# Altium integrated library Transistor.IntLib: 52 symbols
Pins are listed as number, name and electrical type; pins without a type are passive.

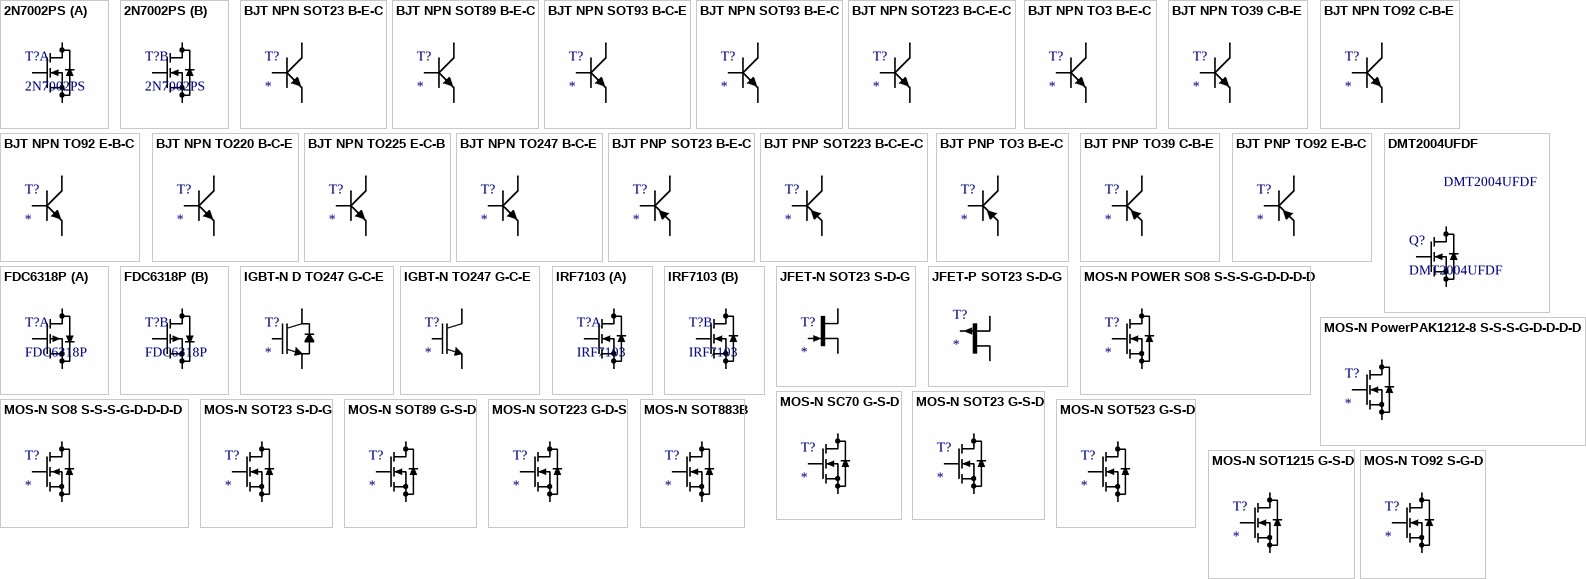
[diagram p0: symbols 2N7002PS to MOS-N TO92 S-G-D]

## 2N7002PS
designator T?
N-channel Trench MOSFET 60 V, 320 mA; Value: 2N7002PS
footprint SOT363 P0.65 C1.3x2.2 H1.0 (SOT363, 6-Leads, Body 1.3x2.2mm, Pitch 0.65mm, IPC Medium Density)
part A pins: 1 S1, 2 G1, 6 D1
part B pins: 3 D2, 4 S2, 5 G2

## BJT NPN SOT23 B-E-C
designator T?
Generic NPN Transistor; Value: *
footprint SOT23 P0.95 C1.6x3.0 H1.3 (SOT23, 3-Leads, Body 1.6x3.0mm, Pitch 0.95mm, IPC Medium Density)
pins: 1 B, 2 E, 3 C

## BJT NPN SOT89 B-E-C
designator T?
Generic NPN Transistor; Value: *
footprint SOT89 P1.5 C2.4x4.6 H1.6 (SOT89, 3-Leads, Body 4.6x2.4 mm, Pitch 1.5mm, Lead Span 4.1mm, IPC Medium Density)
pins: 1 B, 2 E, 3 C

## BJT NPN SOT93 B-C-E
designator T?
Generic NPN Transistor; Value: *
footprint SOT93 VERTICAL (SOT93 VERTICAL, Pitch 5.5, Case 15.0x4.8)
pins: 1 B, 2 E, 3 C

## BJT NPN SOT93 B-E-C
designator T?
Generic NPN Transistor; Value: *
footprint SOT93 VERTICAL (SOT93 VERTICAL, Pitch 5.5, Case 15.0x4.8)
pins: 1 B, 2 E, 3 C

## BJT NPN SOT223 B-C-E-C
designator T?
Generic NPN Transistor; Value: *
footprint SOT223 P2.3 C3.5x6.5 H1.6 (SOT223, 4-Leads, Body 3.50x6.50mm (avg), Pitch 2.30mm, IPC Medium Density); pin to pad 2>3 3>2
pins: 1 B, 2 E, 3 C, 4 C

## BJT NPN TO3 B-E-C
designator T?
Generic NPN Transistor; Value: *
footprint TO3 (TO39, Diameter  8.5mm, Height 12mm)
pins: 1 B, 2 E, 3 C

## BJT NPN TO39 C-B-E
designator T?
Generic NPN Transistor; Value: *
footprint TO39 (TO39, Diameter  8.5mm, Height 12mm)
pins: 1 C, 2 B, 3 E

## BJT NPN TO92 C-B-E
designator T?
Generic NPN Transistor; Value: *
footprint TO92 (TO92, diameter  5mm, Height 9mm); pin to pad 1>2 2>3 3>1
pins: 1 B, 2 E, 3 C

## BJT NPN TO92 E-B-C
designator T?
Generic NPN Transistor; Value: *
footprint TO92 (TO92, Diameter  5mm, Height 9mm)
pins: 1 E, 2 B, 3 C

## BJT NPN TO220 B-C-E
designator T?
Generic NPN Transistor; Value: *
footprint TO220AB VERTICAL (TO220AB VERTICAL, Pitch 2.5, Case 10.4x4.7); pin to pad 2>3 3>2
pins: 1 B, 2 E, 3 C

## BJT NPN TO225 E-C-B
designator T?
Generic NPN Transistor; Value: *
footprint TO225 HORIZONTAL (TO225 HORIZONTAL, Pitch 2.2, Case 11.0x8.0)
footprint TO225 VERTICAL (TO225 VERTICAL, Pitch 2.2, Case 8.0x2.5)
pins: 1 E, 2 C, 3 B

## BJT NPN TO247 B-C-E
designator T?
Generic NPN Transistor; Value: *
footprint TO247 VERTICAL (TO247, Pitch 5.45 mm, Case  16 x 5.3mm, Height 25mm); pin to pad 2>3 3>2
pins: 1 B, 2 E, 3 C

## BJT PNP SOT23 B-E-C
designator T?
Generic PNP Transistor; Value: *
footprint SOT23 P0.95 C1.6x3.0 H1.3 (SOT23, 3-Leads, Body 1.6x3.0mm, Pitch 0.95mm, IPC Medium Density)
pins: 1 B, 2 E, 3 C

## BJT PNP SOT223 B-C-E-C
designator T?
Generic NPN Transistor; Value: *
footprint SOT223 P2.3 C3.5x6.5 H1.6 (SOT223, 4-Leads, Body 3.50x6.50mm (avg), Pitch 2.30mm, IPC Medium Density); pin to pad 2>3 3>2
pins: 1 B, 2 E, 3 C, 4 C

## BJT PNP TO3 B-E-C
designator T?
Generic PNP Transistor; Value: *
footprint TO3 (TO39, Diameter  8.5mm, Height 12mm)
pins: 1 B, 2 E, 3 C

## BJT PNP TO39 C-B-E
designator T?
Generic PNP Transistor; Value: *
footprint TO39 (TO39, Diameter  8.5mm, Height 12mm)
pins: 1 C, 2 B, 3 E

## BJT PNP TO92 E-B-C
designator T?
Generic PNP Transistor; Value: *
footprint TO92 (TO92, Diameter  5mm, Height 9mm)
pins: 1 E, 2 B, 3 C

## DMT2004UFDF
designator Q?
N-channel MOSFET; Value: DMT2004UFDF
footprint U-DFN2020-6 (microDFN Case2.00x2.00)
pins: 1 D, 2 D, 3 G, 4 S, 5 D, 6 D, 7 D, 8 S

## FDC6318P
designator T?
Dual P-Channel Mosfet; Value: FDC6318P
footprint SUPERSOT-6 P0.95 C3.0x1.6 H1.2 (SUPERSOT-6SOT89, 6-Leads, Body 3.0x1.6 mm, Pitch 0.95mm, Heigt 1.2mm)
part A pins: 1 G1, 5 S1, 6 D1
part B pins: 2 S2, 3 G2, 4 D2

## IGBT-N D TO247 G-C-E
designator T?
Generic IGBT N channel with Diode; Value: *
footprint TO247 VERTICAL (TO247, Pitch 5.45 mm, Case  16 x 5.3mm, Height 25mm); pin to pad 2>3 3>2
pins: 1 G, 2 E, 3 C

## IGBT-N TO247 G-C-E
designator T?
Generic IGBT N channel; Value: *
footprint TO247 VERTICAL (TO247, Pitch 5.45 mm, Case  16 x 5.3mm, Height 25mm)
pins: 1 G, 2 E, 3 C

## IRF7103
designator T?
Dual N-Channel MOSFET; Value: IRF7103
footprint SO8 P1.27 C4.0X5.0 H1.75 (8-Pin Small Outline Integrated Circuit 1.27 mm Pitch, IPC Medium Density)
part A pins: 1 S1, 2 G1, 7 D1, 8 D1
part B pins: 3 S2, 4 G2, 5 D2, 6 D2

## JFET-N SOT23 S-D-G
designator T?
Generic MOS-N; Value: *
footprint SOT23 P0.95 C1.6x3.0 H1.3 (SOT23, 3-Leads, Body 1.6x3.0mm, Pitch 0.95mm, IPC Medium Density); pin to pad 1>3 2>1 3>2
pins: 1 G, 2 S, 3 D

## JFET-P SOT23 S-D-G
designator T?
Generic MOS-N; Value: *
footprint SOT23 P0.95 C1.6x3.0 H1.3 (SOT23, 3-Leads, Body 1.6x3.0mm, Pitch 0.95mm, IPC Medium Density); pin to pad 1>3 2>1 3>2
pins: 1 G, 2 S, 3 D

## MOS-N POWER SO8 S-S-S-G-D-D-D-D
designator T?
Generic MOS-N; Value: *
footprint POWERPACK SO8 P1.27 C5.2X6.2 H1.2 (PowerPACK SO8 P1.27mm)
pins: 1 S, 2 S, 3 S, 4 G, 5 D, 6 D, 7 D, 8 D

## MOS-N PowerPAK1212-8 S-S-S-G-D-D-D-D
designator T?
Generic MOS-N; Value: *
footprint POWERPACK 1212-8 (POWERPACK 1212-8, Body 3.0x3.0mm, Height 1.1mm); pin to pad 1>4 3>5 4>1 5>3
pins: 1 G, 2 S, 3 D, 4 S, 5 S

## MOS-N SC70 G-S-D
designator T?
Generic MOS-N; Value: *
footprint SC70-3 P0.65 C1.4x2.2 H1.0 (SC70, 3-Leads, Body 2.2x1.40mm, Pitch 0.65mm, IPC Medium Density)
pins: 1 G, 2 S, 3 D

## MOS-N SO8 S-S-S-G-D-D-D-D
designator T?
Generic MOS-N; Value: *
footprint SO8 P1.27 C4.0X5.0 H1.75 (8-Pin Small Outline Integrated Circuit 1.27 mm Pitch, IPC Medium Density)
pins: 1 S, 2 S, 3 S, 4 G, 5 D, 6 S, 7 S, 8 S

## MOS-N SOT23 G-S-D
designator T?
Generic MOS-N; Value: *
footprint SOT23 P0.95 C1.6x3.0 H1.3 (SOT23, 3-Leads, Body 1.6x3.0mm, Pitch 0.95mm, IPC Medium Density)
pins: 1 G, 2 S, 3 D

## MOS-N SOT23 S-D-G
designator T?
Generic MOS-N; Value: *
footprint SOT23 P0.95 C1.6x3.0 H1.3 (SOT23, 3-Leads, Body 1.6x3.0mm, Pitch 0.95mm, IPC Medium Density); pin to pad 1>3 2>1 3>2
pins: 1 G, 2 S, 3 D

## MOS-N SOT89 G-S-D
designator T?
Generic MOS-N; Value: *
footprint SOT89 P1.5 C2.4x4.6 H1.6 (SOT89, 3-Leads, Body 4.6x2.4 mm, Pitch 1.5mm, Lead Span 4.1mm, IPC Medium Density)
pins: 1 G, 2 S, 3 D

## MOS-N SOT223 G-D-S
designator T?
Generic MOS-N; Value: *
footprint SOT223 P2.3 C3.5x6.5 H1.6 (SOT223, 4-Leads, Body 3.50x6.50mm (avg), Pitch 2.30mm, IPC Medium Density)
pins: 1 G, 2 D, 3 S, 4 D

## MOS-N SOT523 G-S-D
designator T?
Generic MOS-N; Value: *
footprint SOT523-3 P0.90 C0.8x1.6 H1.3 (SOT523-3, Body 0.8x1.6mm, Pitch 0.9mm)
pins: 1 G, 2 S, 3 D

## MOS-N SOT883B
designator T?
Generic MOS-N; Value: *
footprint SOT883B C1.0x0.6 H0.4 (SOT883B (DFN1006B-3) C1.0x0.6 H0.4)
pins: 1 G, 2 S, 3 D

## MOS-N SOT1215 G-S-D
designator T?
Generic MOS-N; Value: *
footprint SOT1215 P0.75 C1.1x1.0 H0.4 (SOT1215, 3-Leads, Body 1.10x1.0mm, Pitch 0.75mm)
pins: 1 G, 2 S, 3 D

## MOS-N TO92 S-G-D
designator T?
Generic MOS-N; Value: *
footprint TO92 (TO92, Diameter  5mm, Height 9mm); pin to pad 1>2 2>1
pins: 1 G, 2 S, 3 D

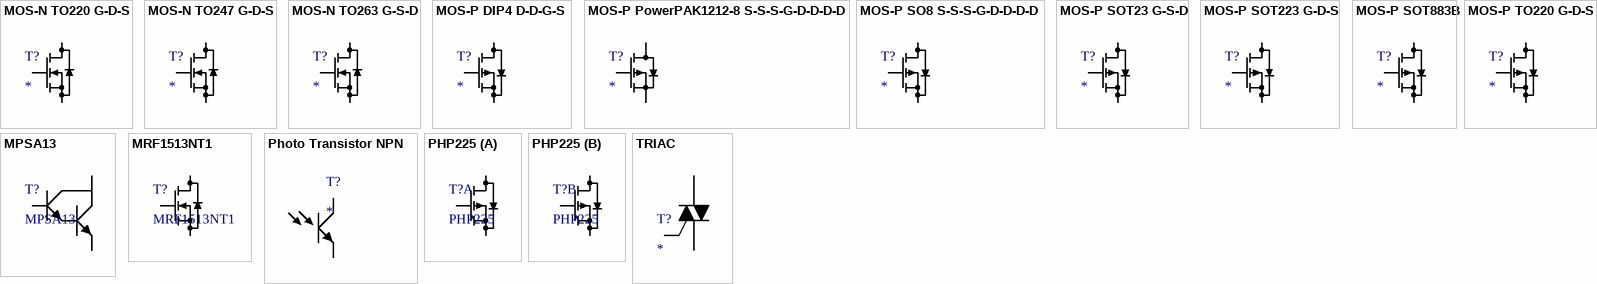
[diagram p1: symbols MOS-N TO220 G-D-S to TRIAC]

## MOS-N TO220 G-D-S
designator T?
Generic MOS-N; Value: *
footprint TO220AB VERTICAL (TO220AB VERTICAL, Pitch 2.5, Case 10.4x4.7); pin to pad 2>3 3>2
footprint TO220-3P-HV (TO220 ,3Pin, High Voltage, VERTICAL, Pitch 2.5, Case 10.4x4.7); pin to pad 2>3 3>2
footprint TO220-3P (TO220 ,3Pin, VERTICAL, Pitch 2.5, Case 10.4x4.7); pin to pad 2>3 3>2
pins: 1 G, 2 S, 3 D

## MOS-N TO247 G-D-S
designator T?
Generic MOS-N; Value: *
footprint TO247 VERTICAL (TO247, Pitch 5.45 mm, Case  16 x 5.3mm, Height 25mm); pin to pad 2>3 3>2
footprint TO247 HORIZONTAL (TO247, Pitch 5.45 mm, Case  16 x 25mm, Height 5.3mm); pin to pad 2>3 3>2
pins: 1 G, 2 S, 3 D

## MOS-N TO263 G-S-D
designator T?
Generic MOS-N; Value: *
footprint TO263-2 P2.29 C10.2x8.6 H4.6 (TO263-2 LEAD (D2PAK), Body 10.2x8.6mm)
pins: 1 G, 2 S, 3 D

## MOS-P DIP4 D-D-G-S
designator T?
Generic MOS-P; Value: *
footprint HVM DIP P2.54 (HVM DIP, 4 PIN, P2.54,)
pins: 1 D, 2 D, 3 G, 4 S

## MOS-P PowerPAK1212-8 S-S-S-G-D-D-D-D
designator T?
Generic MOS-P; Value: *
footprint POWERPACK 1212-8 (POWERPACK 1212-8, Body 3.0x3.0mm, Height 1.1mm); pin to pad 1>4 3>5 4>1 5>3
pins: 1 G, 2 S, 3 D, 4 S, 5 S

## MOS-P SO8 S-S-S-G-D-D-D-D
designator T?
Generic MOS-P; Value: *
footprint SO8 P1.27 C4.0X5.0 H1.75 (8-Pin Small Outline Integrated Circuit 1.27 mm Pitch, IPC Medium Density)
pins: 1 S, 2 S, 3 S, 4 G, 5 D, 6 S, 7 S, 8 S

## MOS-P SOT23 G-S-D
designator T?
Generic MOS-P; Value: *
footprint SOT23 P0.95 C1.6x3.0 H1.3 (SOT23, 3-Leads, Body 1.6x3.0mm, Pitch 0.95mm, IPC Medium Density)
pins: 1 G, 2 S, 3 D

## MOS-P SOT223 G-D-S
designator T?
Generic MOS-P; Value: *
footprint SOT223 P2.3 C3.5x6.5 H1.6 (SOT223, 4-Leads, Body 3.50x6.50mm (avg), Pitch 2.30mm, IPC Medium Density)
pins: 1 G, 2 D, 3 S, 4 D

## MOS-P SOT883B
designator T?
Generic MOS-P; Value: *
footprint SOT883B C1.0x0.6 H0.4 (SOT883B (DFN1006B-3) C1.0x0.6 H0.4)
pins: 1 G, 2 S, 3 D

## MOS-P TO220 G-D-S
designator T?
Generic MOS-P; Value: *
footprint TO220AB VERTICAL (TO220AB VERTICAL, Pitch 2.5, Case 10.4x4.7); pin to pad 2>3 3>2
pins: 1 G, 2 S, 3 D

## MPSA13
designator T?
Darlington Transistors, NPN Silicon; Value: MPSA13
footprint TO92 (TO92, Diameter  5mm, Height 9mm)
pins: 1 E, 2 B, 3 C

## MRF1513NT1
designator T?
N-Channel Enhancement-Mode Lateral MOSFET
footprint CASE 466-06 (CASE 466-06 C6.0x6.0 H1.8mm)
pins: 1 D, 2 G, 3 S

## Photo Transistor NPN
designator T?
Generic NPN Photo Transistor; Value: *
footprint Photo Transitor 3mm (Standard Photo Transitor 3mm)
pins: 1 C, 2 E

## PHP225
designator T?
Dual P-Channel MOSFET; Value: PHP225
footprint SO8 P1.27 C4.0X5.0 H1.75 (8-Pin Small Outline Integrated Circuit 1.27 mm Pitch, IPC Medium Density)
part A pins: 1 S1, 2 G1, 7 D1, 8 D1
part B pins: 3 S2, 4 G2, 5 D2, 6 D2

## TRIAC
designator T?
Generic TRIAC; Value: *
footprint TO220AB VERTICAL (TO220AB VERTICAL, Pitch 2.5, Case 10.4x4.7)
pins: 1 T1, 2 T2, 3 G